# Altium footprint library Power Board PCB Lib.PcbLib: 20 footprints (part 2 of 2)
Each footprint in its own frame and in the unit in brackets; x right, y up, seen from the top. Pads: shape width x height; smd on the part's side, far side on the other; paste and mask are expansions set on the pad; w line width, h text height; cw(c..) or ccw(c..) is an arc to the next point about the centre after c.
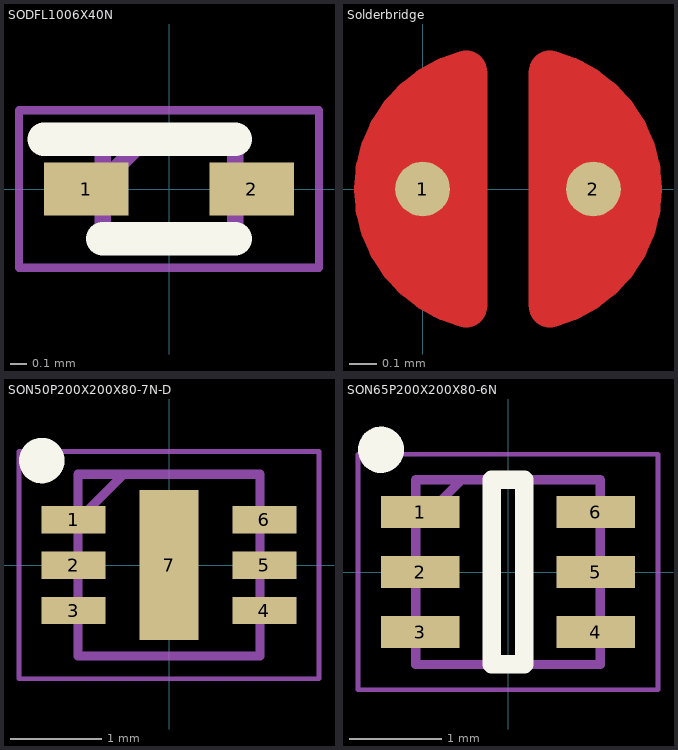
[diagram p1: the footprints below, top view; thin cyan lines are the x and y axes]

## SODFL1006X40N [mm]
pads (2):
  rect 0.51x0.32 smd: 1(-0.5,0) 2(0.5,0)
Top Overlay:
  lines w0.2: -0.755,0.3 0.4,0.3 ; -0.4,-0.3 0.4,-0.3
Mechanical 13:
  lines w0.1: -0.4,0.045 -0.145,0.3 ; -0.4,-0.3 0.4,-0.3 0.4,0.3 -0.4,0.3 -0.4,-0.3
Mechanical 15:
  lines w0.05: -0.905,-0.475 0.905,-0.475 0.905,0.475 -0.905,0.475 -0.905,-0.475
3D body "SZESD9101P2T5G.stp": height 0.4, standoff 0, extent -0.5,-0.3 0.5,0.3

## Solderbridge [mm]
pads (2):
  round 0.2 smd paste-10: 1(0,0) 2(0.625,0)
Top Layer:
  region: 0.389,0.432 0.465,0.505 0.583,0.467 0.648,0.424 0.721,0.351 0.775,0.292 0.833,0.193 0.861,0.099 0.856,-0.122 0.831,-0.193 0.747,-0.33 0.663,-0.411 0.571,-0.469 0.47,-0.5 0.419,-0.483 0.389,-0.43
  region: 0.236,-0.432 0.16,-0.505 0.042,-0.467 -0.023,-0.424 -0.097,-0.351 -0.15,-0.292 -0.208,-0.193 -0.236,-0.099 -0.231,0.122 -0.206,0.193 -0.122,0.33 -0.038,0.411 0.054,0.469 0.155,0.5 0.206,0.483 0.236,0.43
  lines w0.152: 0.159,-0.431 cw(c0.27,0) 0.159,0.431 ; 0.465,-0.431 ccw(c0.355,0) 0.465,0.431
Top Solder:
  circle w0.61: c0.31,0 r0.279

## SON50P200X200X80-7N-D [mm]
pads (7):
  rect 0.7x0.3 smd: 1(-1.05,0.5) 2(-1.05,0) 3(-1.05,-0.5) 4(1.05,-0.5) 5(1.05,0) 6(1.05,0.5)
  rect 0.65x1.65 smd: 7(0,0)
Top Overlay:
  circle w0.25: c-1.4,1.15 r0.125
Mechanical 13:
  lines w0.1: -1,0.5 -0.5,1 ; -1,-1 -1,1 1,1 1,-1 -1,-1
Mechanical 15:
  lines w0.05: -1.65,-1.25 -1.65,1.25 1.65,1.25 1.65,-1.25 -1.65,-1.25
3D body "MCP73830LT-0AAI_MYY.stp": height 0.8, standoff 0, extent -1.05,-1 1.05,1

## SON65P200X200X80-6N [mm]
pads (6):
  rect 0.85x0.35 smd: 1(-0.95,0.65) 2(-0.95,0) 3(-0.95,-0.65) 4(0.95,-0.65) 5(0.95,0) 6(0.95,0.65)
Top Overlay:
  circle w0.25: c-1.375,1.325 r0.125
  lines w0.2: -0.175,-1 0.175,-1 0.175,1 -0.175,1 -0.175,-1
Mechanical 13:
  lines w0.1: -1,0.5 -0.5,1 ; -1,-1 1,-1 1,1 -1,1 -1,-1
Mechanical 15:
  lines w0.05: -1.625,-1.275 1.625,-1.275 1.625,1.275 -1.625,1.275 -1.625,-1.275
3D body "MAX17223ELT+T.stp": height 0.8, standoff 0, extent -1.05,-1 1.05,1